# EAGLE library part EEPROM-SERIAL (library pixhawk2)
Serial EEPROM (SPI / Microwire) This is a standard footprint for SPI / Microwire serial EEPROMs. Matching parts include: Microchip Technology 93LC46BT-I/ST: 1K, 16 bit (64x16), 2 MHz, 2.5 - 5.5 V
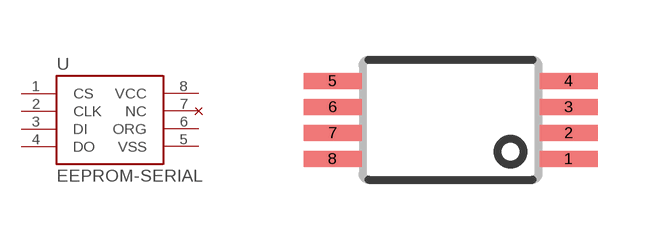
[diagram p40: symbol with the pads of TSSOP-8; footprint TSSOP-8]

Designator prefix -

## EEPROM-SERIAL-TSSOP-8  [TSSOP-8]
1  CS  in
2  CLK  in
3  DI  in
4  DO  out
5  VSS  pwr
6  ORG
7  NC  nc
8  VCC  pwr

## Footprint TSSOP-8 (pad centres in mm)
smd 1.45 x 0.4: 1 2.95,-0.975; 2 2.95,-0.325; 3 2.95,0.325; 4 2.95,0.975; 5 -2.95,0.975; 6 -2.95,0.325; 7 -2.95,-0.325; 8 -2.95,-0.975